# EAGLE library part 6-PIN-1.27 (library glacsweb)
PIN HEADER Cut down from 10-way headers and used for programming on SSN/SDN
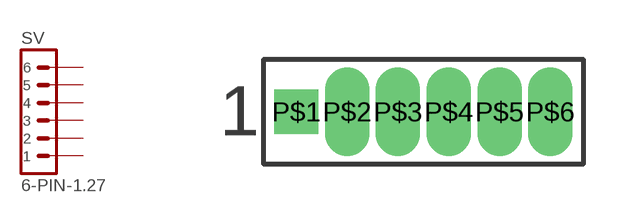
[diagram p10: symbol with the pads of 6-1.27; footprint 6-1.27]

Designator prefix SV

## 6-PIN-1.27-FEMALE (MANUFACTURER: Harwin; MPN: M52-5001045; OC_FARNEL: CN14045), 6-PIN-1.27-MALE (MANUFACTURER: Harwin; MPN: M52-040023V1045; OC_FARNEL: CN14053)  [6-1.27]
P$1  1  pas
P$2  2  pas
P$3  3  pas
P$4  4  pas
P$5  5  pas
P$6  6  pas

## Footprint 6-1.27 (pad centres in mm)
drill 0.6 pad 1 square: P$1 -5.08,0
drill 0.6 pad 1 long: P$2 -3.81,0; P$3 -2.54,0; P$4 -1.27,0; P$5 0,0; P$6 1.27,0